# EAGLE library part LMR51450FNDRRR (library LMR51450FNDRRR)
Switching Voltage Regulators 36-V, 5-A synchronous buck converter Source: Datasheet <https://www.ti.com/lit/ds/symlink/lmr51450.pdf?ts=1681907573404&ref_url=https%3A%2F%2Fwww.ti.com%2Fproduct%2FLMR51450%2Fpart-details%2FLMR51450FNDRRR>
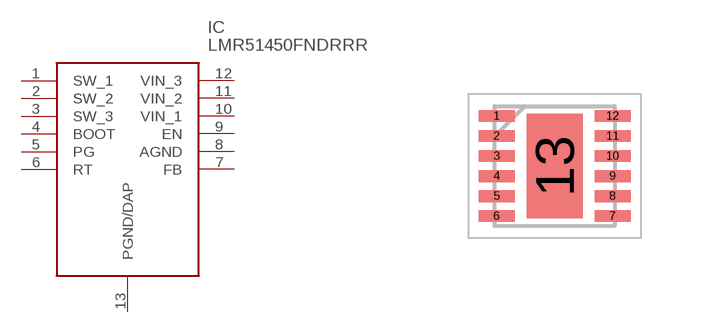
[diagram p0: symbol with the pads of SON50P300X300X80-13N; footprint SON50P300X300X80-13N]

Designator prefix IC

## LMR51450FNDRRR (Description: Switching Voltage Regulators 36-V, 5-A synchronous buck converter; Height: 0.8mm; Manufacturer_Name: Texas Instruments; Manufacturer_Part_Number: LMR51450FNDRRR; Mouser_Part_Number: 595-LMR51450FNDRRR; Mouser_Price-Stock: https://www.mouser.co.uk/ProductDetail/Texas-Instruments/LMR51450FNDRRR?qs=rQFj71Wb1eVWWBj0Ni4OAA%3D%3D)  [SON50P300X300X80-13N]
1  SW_1
2  SW_2
3  SW_3
4  BOOT
5  PG
6  RT
7  FB
8  AGND
9  EN
10  VIN_1
11  VIN_2
12  VIN_3
13  PGND/DAP

## Footprint SON50P300X300X80-13N (pad centres in mm)
DRR0012G
smd 0.9 x 0.3: 1 -1.45,1.25; 2 -1.45,0.75; 3 -1.45,0.25; 4 -1.45,-0.25; 5 -1.45,-0.75; 6 -1.45,-1.25; 7 1.45,-1.25; 8 1.45,-0.75; 9 1.45,-0.25; 10 1.45,0.25; 11 1.45,0.75; 12 1.45,1.25
smd 1.4 x 2.6: 13 0,0